# EAGLE library part OP16 (library opamps)
OP16: JFET opamp (Analog Devices) ±15V, 400nA bias 3.8mV offset, 5MHz UGF, 20nV/rt(Hz) noise
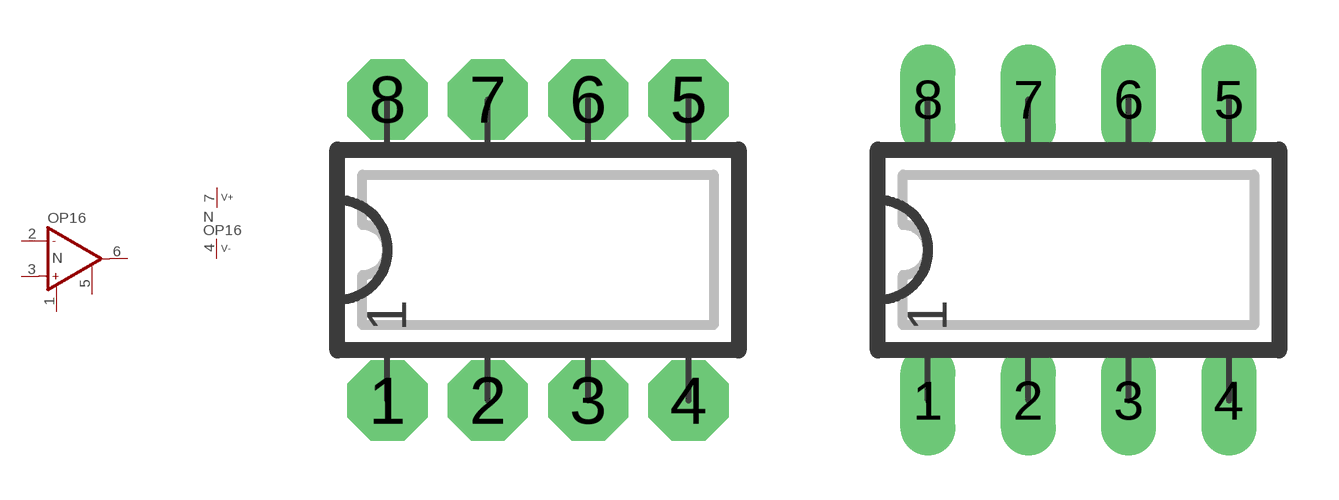
[diagram p45: symbol with the pads of DIP08N; footprints DIP08N, DIP08L]

Designator prefix N; gates A=OP_C P=V+-

## OP16N  [DIP08N]
1  A:OPC1
2  A:IN-  in
3  A:IN+  in
4  P:V-  pwr
5  A:OPC2
6  A:OUT  out
7  P:V+  pwr

## OP16  [DIP08L]
Pads as for DIP08N

## OP16L  [DIP08L]
Pads as for DIP08N

## OP16R  [DIP08R]
Pads as for DIP08N

## Footprint DIP08N (pad centres in mm)
DIP-8 Standard IC package, 8 pins
drill 0.813 pad 2.032 octagon: 1 -3.81,-3.81; 2 -1.27,-3.81; 3 1.27,-3.81; 4 3.81,-3.81; 5 3.81,3.81; 6 1.27,3.81; 7 -1.27,3.81; 8 -3.81,3.81

## Footprint DIP08L (pad centres in mm)
DIP-8, long pads Standard IC package, 8 pins
drill 0.813 pad 1.397 long: 1 -3.81,-3.81; 2 -1.27,-3.81; 3 1.27,-3.81; 4 3.81,-3.81; 5 3.81,3.81; 6 1.27,3.81; 7 -1.27,3.81; 8 -3.81,3.81

## Footprint DIP08R (pad centres in mm)
DIP-8, reduced pads Standard IC package, 8 pins
drill 0.813 pad 1.397 square: 1 -3.81,-3.81; 2 -1.27,-3.81; 3 1.27,-3.81; 4 3.81,-3.81; 5 3.81,3.81; 6 1.27,3.81; 7 -1.27,3.81; 8 -3.81,3.81